# EAGLE library part NUP4114HMR6T1G (library NUP4114HMR6T1G)
Low Clamping Voltage; Small Body Outline Dimensions on SC88 Package:0.082 x 0.078 (2.10 mm x 1.25 mm); Low Body Height: 0.043 (1.10 mm); Standoff Voltage: 5.5 V; Low Leakage; Response Time is Typically < 1.0 ns; IEC6100042 Level 4 ESD Protection; These Devices are PbFree and are RoHS Compliant; AECQ101 Qualified and PPAP Capable for SZNUP4114; Meets UL 94 V-0; SZ prefix for automotive and other applications requiring unique site and control change requirements Source: Datasheet <https://www.onsemi.com/pub/Collateral/NUP4114-D.PDF>
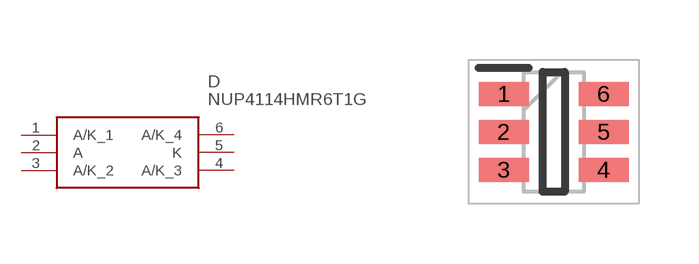
[diagram p0: symbol with the pads of SOT95P275X110-6N; footprint SOT95P275X110-6N]

Designator prefix D

## NUP4114HMR6T1G (Arrow_Part_Number: NUP4114HMR6T1G; Arrow_Price-Stock: https://www.arrow.com/en/products/nup4114hmr6t1g/on-semiconductor?region=nac; Description: Low Clamping Voltage; Small Body Outline Dimensions on SC88 Package:0.082 x 0.078 (2.10 mm x 1.25 mm); Low Body Height: 0.043 (1.10 mm); Standoff Voltage: 5.5 V; Low Leakage; Response Time is Typically < 1.0 ns; IEC6100042 Level 4 ESD Protection; These Devices are PbFree and are RoHS Compliant; AECQ101 Qualified and PPAP Capable for SZNUP4114; Meets UL 94 V-0; SZ prefix for automotive and other applications requiring unique site and control change requirements; Height: 1.1mm; Manufacturer_Name: onsemi; Manufacturer_Part_Number: NUP4114HMR6T1G; Mouser_Part_Number: 863-NUP4114HMR6T1G; Mouser_Price-Stock: https://www.mouser.co.uk/ProductDetail/onsemi/NUP4114HMR6T1G?qs=N5dOQkml4H94pJEa3E8tzw%3D%3D)  [SOT95P275X110-6N]
1  A/K_1
2  A
3  A/K_2
4  A/K_3
5  K
6  A/K_4

## Footprint SOT95P275X110-6N (pad centres in mm)
TSOP−6 CASE 318G−02
smd 1.25 x 0.6: 1 -1.25,0.95; 2 -1.25,0; 3 -1.25,-0.95; 4 1.25,-0.95; 5 1.25,0; 6 1.25,0.95